# Altium integrated library FILM-CAP-225-630V-RAD.IntLib: 1 symbol
Pins are listed as number, name and electrical type; pins without a type are passive.

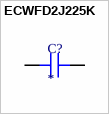
[diagram p0: symbol ECWFD2J225K]

## ECWFD2J225K
designator C?
MP: ECWFD2J225K; Value: *; Package: None; Price: None; Availability: Unavailable
footprint CAPRR2250W80L2530T1240H1770
pins: 1, 2